# Altium schematic symbol library AP63203WU-7.SchLib: 1 symbol
Pins are listed as number, name and electrical type; pins without a type are passive.

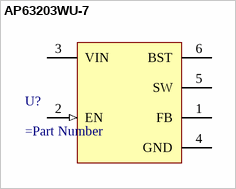
[diagram p0: symbol AP63203WU-7]

## AP63203WU-7
designator U?
=Description
pins: 1 FB, 2 EN (in), 3 VIN (power), 4 GND (power), 5 SW, 6 BST